# Altium integrated library SmartWatch.IntLib: 24 symbols
Pins are listed as number, name and electrical type; pins without a type are passive.

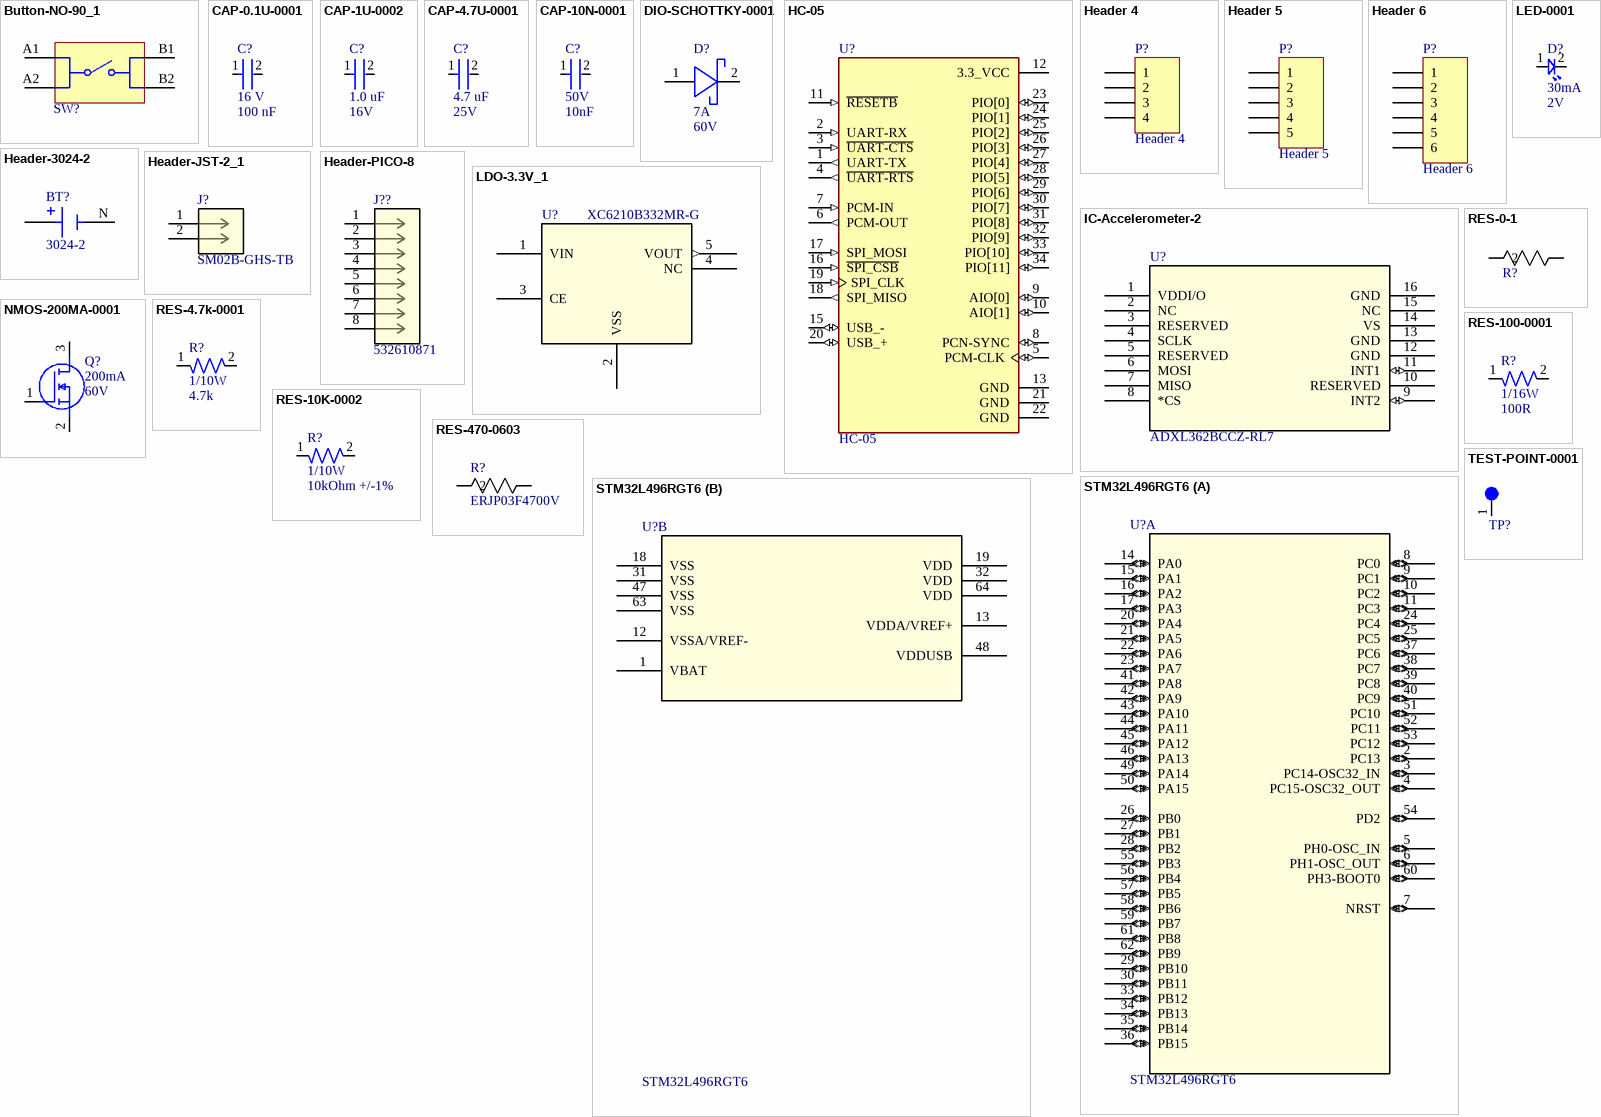
[diagram p0: symbols Button-NO-90_1 to TEST-POINT-0001]

## Button-NO-90_1
designator SW?, comment 434351045816  (value not drawn)
WS-TASU SMT Tact Switch 4.7x3.5mm side push, SPST-NO, 12VDC, 50mA, 160g; Manufacturer: Wurth Elektronik; Washable: No; ComponentLink1Description: Website Link; ComponentLink1URL: https://www.we-online.com/redexpert/article/434351045816?ad; ComponentLink2Description: Datasheet Link; ComponentLink2URL: https://www.we-online.com/redexpert/spec/434351045816?ad; Manufacturer Part Number: 434351045816; Category: Tact Switches; Match Code: WS-TASU; Mount: Surface Mount; Operating Temperature Max: 85°C; Operating Temperature Min: -40°C; Packaging: Tape and Reel; Length: 4.7mm; Width: 3.5mm; Height: 1.65mm; Circuit: SPST-NO; Contact Material: Stainless Steel; Contact Plating: Silver; Operation Force: 160g; Rated Current: 50mA; Rated Voltage: 12VDC; Terminal Material: Copper Alloy; Terminal Plating: Silver
footprint 434351045816
pins: A1, A2, B1, B2

## CAP-0.1U-0001
designator C?, comment Voltage Rating: 16 V  Capacitance: 100 nF  (hidden comment: CC0402KRX7R7BB104)
CAP CER 0.1UF 16V X7R 0402; ComponentLink2Description: Datasheet; ComponentLink2URL: https://www.yageo.com/upload/media/product/productsearch/datasheet/mlcc/UPY-GPHC_X7R_6.3V-to-250V_24.pdf; Device Class: Ceramic; Size: 0402
footprint CAP-0402
pins: 1, 2

## CAP-1U-0002
designator C?, comment Capacitance: 1.0 uF  Voltage: 16V  (hidden comment: CC0603KRX7R7BB105)
CAP CER 1UF 16V X7R 0603; Device Class: Ceramic; Size: 0603
footprint CAP-0603
pins: 1, 2

## CAP-4.7U-0001
designator C?, comment Capacitance: 4.7 uF  Voltage: 25V  (hidden comment: CC0603KRX5R8BB475)
CAP CER 4.7UF 25V X5R 0603; Device Class: Ceramic; Size: 0603
footprint CAP-0603
pins: 1, 2

## CAP-10N-0001
designator C?, comment Voltage: 50V  Capacitance: 10nF  (hidden comment: GRM2195C1H103JA01D)
CAP CER 10000PF 50V C0G/NP0 0805; Device Class: Ceramic; Size: 0805; ComponentLink1Description: Datasheet; ComponentLink1URL: https://search.murata.co.jp/Ceramy/image/img/A01X/G101/ENG/GRM2195C1H103JA01-01.pdf
footprint CAP-0805
pins: 1, 2

## DIO-SCHOTTKY-0001
designator D?, comment Forward Current: 7A  Reverse Voltage (DC): 60V  (hidden comment: PDS760-13)
DIODE SCHOTTKY 60V 7A POWERDI5; ComponentLink1Description: Datasheet; ComponentLink1URL: https://www.diodes.com/assets/Datasheets/PDS760.pdf
footprint DO-POWERDI5 (SMD, 3-Leads, Body 3.975x5.375mm, Pitch 1.84mm)
pins: 1 CATHODE, 2 ANODE

## HC-05
designator U?
Bluetooth to Serial Port Module; MF: ITead Studio; SnapEDA_Link: https://www.snapeda.com/parts/HC-05/ITEAD/view-part/?ref=snap; Package: Module ITead Studio; Value: *; MP: HC-05; Check_prices: https://www.snapeda.com/parts/HC-05/ITEAD/view-part/?ref=eda; ComponentLink1Description: Datasheet; ComponentLink1URL: https://components101.com/sites/default/files/component_datasheet/HC06%20Bluetooth%20Module%20Datasheet.pdf; ComponentLink2Description: Datasheet2; ComponentLink2URL: https://dcc-ex.com/reference/hardware/bluetooth/hc-05-06.html#gsc.tab=0
footprint XCVR_HC-05
pins: 1 UART-TX (out), 2 UART-RX (in), 3 ~{UART-CTS} (in), 4 ~{UART-RTS} (out), 5 PCM-CLK (io), 6 PCM-OUT (out), 7 PCM-IN (in), 8 PCN-SYNC (io), 9 AIO[0] (io), 10 AIO[1] (io), 11 ~{RESETB} (in), 12 3.3_VCC (power), 13 GND (power), 15 USB_- (io), 16 ~{SPI_CSB} (in), 17 SPI_MOSI (in), 18 SPI_MISO (out), 19 SPI_CLK (in), 20 USB_+ (io), 21 GND (power), 22 GND (power), 23 PIO[0] (io), 24 PIO[1] (io), 25 PIO[2] (io), 26 PIO[3] (io), 27 PIO[4] (io), 28 PIO[5] (io), 29 PIO[6] (io), 30 PIO[7] (io), 31 PIO[8] (io), 32 PIO[9] (io), 33 PIO[10] (io), 34 PIO[11] (io)

## Header 4
designator P?
Header, 4-Pin; LatestRevisionDate: 17-Jul-2002; LatestRevisionNote: Re-released for DXP Platform.; Publisher: Altium Limited
footprint HDR1X4 (Connector; Header; 4 Position)
signal-integrity model Connector
pins: 1, 2, 3, 4

## Header 5
designator P?
Header, 5-Pin; LatestRevisionDate: 17-Jul-2002; LatestRevisionNote: Re-released for DXP Platform.; Publisher: Altium Limited
footprint HDR1X5 (Connector; Header; 5 Position)
signal-integrity model Connector
pins: 1, 2, 3, 4, 5

## Header 6
designator P?
Header, 6-Pin; LatestRevisionDate: 17-Jul-2002; LatestRevisionNote: Re-released for DXP Platform.; Publisher: Altium Limited
footprint HDR1X6 (Connector; Header; 6 Position)
signal-integrity model Connector
pins: 1, 2, 3, 4, 5, 6

## Header-3024-2
designator BT?, comment 3024-2
Price: None; MP: 3024-2; Package: None; Value: *; Availability: Unavailable; ComponentLink1Description: Datasheet; ComponentLink1URL: https://www.keyelco.com/userAssets/file/M65p8.pdf
footprint BAT_3024-2
pins: N NEG, P1 POS, P2 POS

## Header-JST-2_1
designator J?, comment SM02B-GHS-TB
No Description Available; Mfr_Name: JST; RefDes: RefDes; Type: Type; ComponentLink1Description: Datasheet; ComponentLink1URL: https://www.jst-mfg.com/product/pdf/eng/eGH.pdf
footprint CONN_SM02B-GHS_JST
pins: 1, 2

## Header-PICO-8
designator J??, comment 532610871
No Description Available; Mfr_Name: Molex Connector Corporation; RefDes: RefDes; Type: Type; ComponentLink1Description: Datasheet; ComponentLink1URL: https://www.molex.com/content/dam/molex/molex-dot-com/products/automated/en-us/salesdrawingpdf/532/53261/532610871_sd.pdf?inline
footprint CONN_532610001-SD_08_MOL
pins: 1, 2, 3, 4, 5, 6, 7, 8

## IC-Accelerometer-2
designator U?, comment ADXL362BCCZ-RL7
Accelerometer X, Y, Z Axis ±2g, 4g, 8g 6.25Hz ~ 400Hz 16-LGA (3x3.25); Mfr_Name: Analog Devices Inc; RefDes: RefDes; Type: Type; ComponentLink1Description: Datasheet; ComponentLink1URL: https://www.analog.com/media/en/technical-documentation/data-sheets/ADXL362.pdf
footprint LGA_CC-16-4_ADI
pins: 1 VDDI/O (power), 2 NC, 3 RESERVED, 4 SCLK, 5 RESERVED, 6 MOSI, 7 MISO, 8 *CS, 9 INT2 (io), 10 RESERVED, 11 INT1 (io), 12 GND (power), 13 GND (power), 14 VS, 15 NC, 16 GND (power)

## LDO-3.3V_1
designator U?, comment XC6210B332MR-G
Linear Voltage Regulator IC Positive Fixed 1 Output 700mA SOT-25-5; Mfr_Name: Torex Semiconductor; RefDes: RefDes; Type: Type; ComponentLink1Description: Datasheet; ComponentLink1URL: https://product.torexsemi.com/system/files/series/xc6210.pdf
footprint SOT-25_TOR
pins: 1 VIN (power), 2 VSS (power), 3 CE, 4 NC, 5 VOUT (out)

## LED-0001
designator D?, comment Forward Current: 30mA  Forward Voltage: 2V  (hidden comment: BL-HKC36G-AV-TRB)
LED YELLOW CLEAR 0603 SMD; ComponentLink1Description: Datasheet; ComponentLink1URL: https://www.americanbrightled.com/pdffiles/led-components/smt/BL-HKC36G-AV-TRB.pdf
footprint LED-0603
pins: 1, 2

## NMOS-200MA-0001
designator Q?, comment Continuous Current: 200mA  Voltage: 60V  (hidden comment: T2N7002AK,LM)
MOSFET N-CH 60V 200MA SOT23; ComponentLink1Description: Datasheet; ComponentLink1URL: https://toshiba.semicon-storage.com/info/T2N7002AK_datasheet_en_20150401.pdf?did=29712&prodName=T2N7002AK
footprint IC-SOT23-3
pins: 1 G, 2 S, 3 D

## RES-0-1
designator R?, comment CRCW12100000Z0EA  (value not drawn)
No Description Available; Mfr_Name: Vishay; ComponentLink1Description: Datasheet; ComponentLink1URL: https://www.vishay.com/docs/20035/dcrcwe3.pdf
footprint RES_CRCW_1210_VIS
pins: 1, 2

## RES-4.7k-0001
designator R?, comment Power: 1/10W  Resistance: 4.7k  (hidden comment: RC0603FR-074K7L)
RES 4.7K OHM 1% 1/10W 0603; Tolerance: 1%; Size: 0603; ComponentLink1Description: Datasheet; ComponentLink1URL: https://www.yageo.com/upload/media/product/products/datasheet/rchip/PYu-RC_Group_51_RoHS_L_12.pdf
footprint RES-0603
pins: 1, 2

## RES-10K-0002
designator R?, comment Power Rating: 1/10W  Resistance: 10kOhm +/-1%  (hidden comment: RC0603FR-0710KP)
RES SMD 10K OHM 1% 1/10W 0603; Manufacturer: YAGEO; Assembled?: no; Manufacturer Part Number: RC0603FR-0710KP; Package Size: 0603
footprint RES-0603
pins: 1, 2

## RES-100-0001
designator R?, comment Power: 1/16W  Resistance: 100R  (hidden comment: RC0402FR-07100RL)
RES 100 OHM 1% 1/16W 0402; Tolerance: 1%; Size: 0402; ComponentLink1Description: Datasheet; ComponentLink1URL: https://www.yageo.com/upload/media/product/products/datasheet/rchip/PYu-RC_Group_51_RoHS_L_12.pdf
footprint RES-0402
pins: 1, 2

## RES-470-0603
designator R?, comment ERJP03F4700V
470 Ohms ±1% 0.2W, 1/5W Chip Resistor 0603 (1608 Metric) Automotive AEC-Q200, Pulse Withstanding Thick Film; Mfr_Name: Panasonic; ComponentLink1Description: Datasheet; ComponentLink1URL: https://industrial.panasonic.com/cdbs/www-data/pdf/RDO0000/AOA0000C331.pdf
footprint RES_ERJP03_PAN
pins: 1, 2

## STM32L496RGT6
designator U?
ARM® Cortex®-M4 STM32L4 Microcontroller IC 32-Bit Single-Core 80MHz 1MB (1M x 8) FLASH 64-LQFP (10x10); Mfr_Name: STMicroelectronics; RefDes: RefDes; Type: Type; ComponentLink1Description: Datasheet; ComponentLink1URL: https://www.st.com/resource/en/datasheet/stm32l496ae.pdf
footprint LQFP64-10x10mm_STM
part A pins: 2 PC13 (io), 3 PC14-OSC32_IN (io), 4 PC15-OSC32_OUT (io), 5 PH0-OSC_IN (io), 6 PH1-OSC_OUT (io), 7 NRST (io), 8 PC0 (io), 9 PC1 (io), 10 PC2 (io), 11 PC3 (io), 14 PA0 (io), 15 PA1 (io), 16 PA2 (io), 17 PA3 (io), 20 PA4 (io), 21 PA5 (io), 22 PA6 (io), 23 PA7 (io), 24 PC4 (io), 25 PC5 (io), 26 PB0 (io), 27 PB1 (io), 28 PB2 (io), 29 PB10 (io), 30 PB11 (io), 33 PB12 (io), 34 PB13 (io), 35 PB14 (io), 36 PB15 (io), 37 PC6 (io), 38 PC7 (io), 39 PC8 (io), 40 PC9 (io), 41 PA8 (io), 42 PA9 (io), 43 PA10 (io), 44 PA11 (io), 45 PA12 (io), 46 PA13 (io), 49 PA14 (io), 50 PA15 (io), 51 PC10 (io), 52 PC11 (io), 53 PC12 (io), 54 PD2 (io), 55 PB3 (io), 56 PB4 (io), 57 PB5 (io), 58 PB6 (io), 59 PB7 (io), 60 PH3-BOOT0 (io), 61 PB8 (io), 62 PB9 (io)
part B pins: 1 VBAT (power), 12 VSSA/VREF- (power), 13 VDDA/VREF+ (power), 18 VSS (power), 19 VDD (power), 31 VSS (power), 32 VDD (power), 47 VSS (power), 48 VDDUSB (power), 63 VSS (power), 64 VDD (power)

## TEST-POINT-0001
designator TP?, comment 5003  (value not drawn)
Oranange PC Test Point, Miniature Phoisphor Bronze Silver Plating Through Hole Mounting Type
footprint TEST-POINT-0001 (2024 miniature test point)
pins: 1 0